# Altium footprint library PLS2-4.PcbLib: 1 footprints
Each footprint in its own frame and in the unit in brackets; x right, y up, seen from the top. Pads: shape width x height; smd on the part's side, far side on the other; paste and mask are expansions set on the pad; w line width, h text height; cw(c..) or ccw(c..) is an arc to the next point about the centre after c.
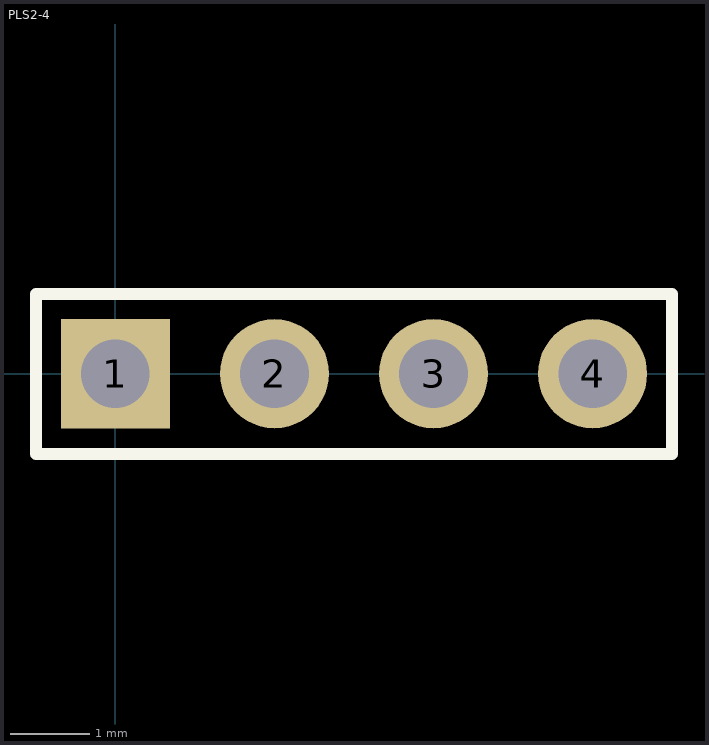
[diagram p0: the footprint, top view; thin cyan lines are the x and y axes]

## PLS2-4 [mil]
pads (4):
  rect 54x54 hole 34: 1(0,0)
  round 54 hole 34: 2(78.74,0) 3(157.48,0) 4(236.22,0)
Top Overlay:
  lines w5.91: -39.37,-39.65 -39.37,39.37 275.59,39.37 275.59,-39.65 -39.37,-39.65 ; -39.37,-39.65 -39.37,-39.65
3D body "PLS2-4.STEP": height 240.16, standoff -106.3, extent -39.37,-39.37 275.59,39.37